# Altium schematic symbol library ESP32-C3-MINI-1U.SchLib: 1 symbol
Pins are listed as number, name and electrical type; pins without a type are passive.

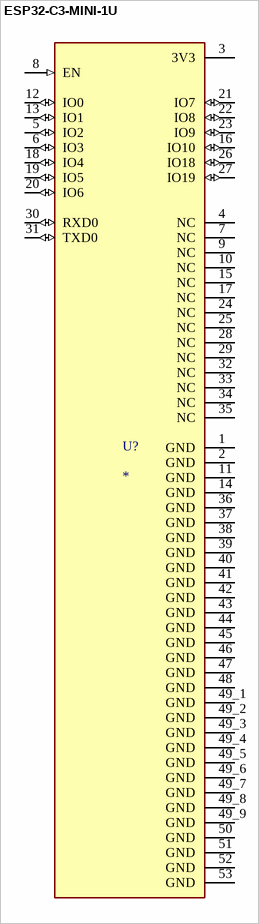
[diagram p0: symbol ESP32-C3-MINI-1U]

## ESP32-C3-MINI-1U
designator U?
Small-sized 2.4 GHz Wi-Fi (802.11b/g/n) and Bluetooth® 5 module. Built around ESP32-C3 series of SoCs, RISC-V single-core microprocessor. 4 MB flash in chip package; Manufacturer: ESPRESSIF; Flash: 4 MB; Antenna: Atenna connector; Chip Embedded: C3FH4X, C3FH4, C3-MINI-1U-N4X; Pin: 53; ComponentLink1Description: Datasheet; ComponentLink1URL: https://www.espressif.com/sites/default/files/documentation/esp32-c3-mini-1_datasheet_en.pdf
footprint ESP32-C3-MINI-1U
pins: 1 GND (power), 2 GND (power), 3 3V3 (power), 4 NC, 5 IO2 (io), 6 IO3 (io), 7 NC, 8 EN (in), 9 NC, 10 NC, 11 GND (power), 12 IO0 (io), 13 IO1 (io), 14 GND (power), 15 NC, 16 IO10 (io), 17 NC, 18 IO4 (io), 19 IO5 (io), 20 IO6 (io), 21 IO7 (io), 22 IO8 (io), 23 IO9 (io), 24 NC, 25 NC, 26 IO18 (io), 27 IO19 (io), 28 NC, 29 NC, 30 RXD0 (io), 31 TXD0 (io), 32 NC, 33 NC, 34 NC, 35 NC, 36 GND (power), 37 GND (power), 38 GND (power), 39 GND (power), 40 GND (power), 41 GND (power), 42 GND (power), 43 GND (power), 44 GND (power), 45 GND (power), 46 GND (power), 47 GND (power), 48 GND (power), 49_1 GND (power), 49_2 GND (power), 49_3 GND (power), 49_4 GND (power), 49_5 GND (power), 49_6 GND (power), 49_7 GND (power), 49_8 GND (power), 49_9 GND (power), 50 GND (power), 51 GND (power), 52 GND (power), 53 GND (power)